# Altium integrated library Diodes - TVS.IntLib: 5379 symbols (part 54 of 122)
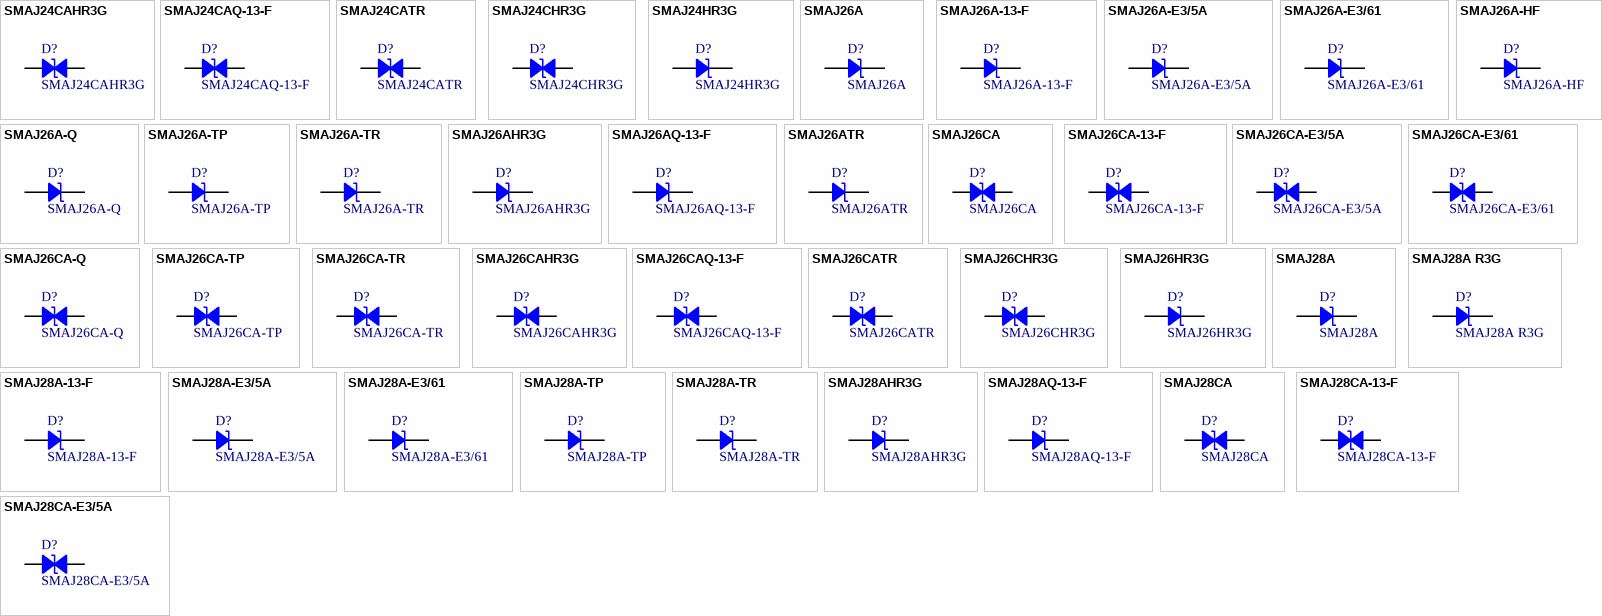
[diagram p187: symbols SMAJ24CAHR3G to SMAJ28CA-E3/5A]

## SMAJ26ATR
designator D?
TVS DIODE 26V 42.1V SMA; Manufacturer: SMC Diode Solutions; Current - Peak Pulse (10/1000µs): 9.5A; Power Line Protection: No; Power - Peak Pulse: 400W; Type: Zener; Unidirectional Channels: 1; Voltage - Breakdown (Min): 28.9V; Part Number: SMAJ26ATR; Applications: General Purpose; ComponentLink1Description: Datasheet; ComponentLink1URL: http://www.smc-diodes.com/propdf/SMAJ%20SERIES%20N0223%20REV.B.pdf; ComponentLink2Description: DigiKey Link; ComponentLink2URL: http://digikey.com/product-detail/en/smc-diode-solutions/SMAJ26ATR/1655-1612-1-ND/6023057; LastUpdated: 9/2/2020 1:20:14 AM; Lifecycle Status: Active; Minimum Order: 1; Mounting Type: Surface Mount; Operating Temperature: -55°C ~ 150°C (TJ); Package / Case: DO-214AC, SMA; Packaging: TapeAndReel; PartId: 5742; Part Status: Active; Price: 0.07; Series: SMAJ; Supplier 1: DigiKey; Supplier Part Number 1: 1655-1612-1-ND; Supplier Device Package: SMA (DO-214AC); Voltage - Clamping (Max) @ Ipp: 42.1V; Voltage - Reverse Standoff (Typ): 26V
footprint DO214AC SMA
pins: 1, 2

## SMAJ26CA
designator D?
TVS DIODE 26V 42.1V SMA; Manufacturer: AVX Corporation; Bidirectional Channels: 1; Current - Peak Pulse (10/1000µs): 9.5A; Power Line Protection: No; Power - Peak Pulse: 400W; Type: Zener; Voltage - Breakdown (Min): 28.9V; Part Number: SMAJ26CA; Applications: General Purpose; ComponentLink1Description: Datasheet; ComponentLink1URL: //media.digikey.com/pdf/Data%20Sheets/AVX%20PDFs/Transient%20Suppression%20Diodes.pdf; ComponentLink2Description: DigiKey Link; ComponentLink2URL: http://digikey.com/product-detail/en/avx-corporation/SMAJ26CA/478-7056-1-ND/3340378; LastUpdated: 9/2/2020 1:27:51 AM; Lifecycle Status: Active; Minimum Order: 1; Mounting Type: Surface Mount; Operating Temperature: -55°C ~ 150°C (TJ); Package / Case: DO-214AC, SMA; Packaging: CutTape; PartId: 7346; Part Status: Active; Price: 0.44; Series: -; Supplier 1: DigiKey; Supplier Part Number 1: 478-7056-1-ND; Supplier Device Package: SMAJ (DO-214AC); Voltage - Clamping (Max) @ Ipp: 42.1V; Voltage - Reverse Standoff (Typ): 26V
footprint DO214AC SMA
pins: 1, 2

## SMAJ26CA-13-F
designator D?
TVS DIODE 26V 42.1V SMA; Manufacturer: Diodes Incorporated; Bidirectional Channels: 1; Current - Peak Pulse (10/1000µs): 9.5A; Power Line Protection: No; Power - Peak Pulse: 400W; Type: Zener; Voltage - Breakdown (Min): 28.9V; Part Number: SMAJ26CA-13-F; Applications: General Purpose; ComponentLink1Description: Datasheet; ComponentLink1URL: https://www.diodes.com/assets/Datasheets/ds19005.pdf; ComponentLink2Description: DigiKey Link; ComponentLink2URL: http://digikey.com/product-detail/en/diodes-incorporated/SMAJ26CA-13-F/SMAJ26CA-FDICT-ND/755512; LastUpdated: 9/2/2020 1:27:53 AM; Lifecycle Status: Active; Minimum Order: 1; Mounting Type: Surface Mount; Operating Temperature: -55°C ~ 150°C (TJ); Package / Case: DO-214AC, SMA; Packaging: TapeAndReel; PartId: 7596; Part Status: Active; Price: 0.09; Series: -; Supplier 1: DigiKey; Supplier Part Number 1: SMAJ26CA-FDICT-ND; Supplier Device Package: SMA; Voltage - Clamping (Max) @ Ipp: 42.1V; Voltage - Reverse Standoff (Typ): 26V
footprint DO214AC SMA
pins: 1, 2

## SMAJ26CA-E3/5A
designator D?
TVS DIODE 26V 42.1V DO214AC; Manufacturer: Vishay Semiconductor Diodes Division; Bidirectional Channels: 1; Current - Peak Pulse (10/1000µs): 9.5A; Power Line Protection: No; Power - Peak Pulse: 400W; Type: Zener; Voltage - Breakdown (Min): 28.9V; Part Number: SMAJ26CA-E3/5A; Applications: General Purpose; ComponentLink1Description: Datasheet; ComponentLink1URL: http://www.vishay.com/docs/88390/smaj50a.pdf; ComponentLink2Description: DigiKey Link; ComponentLink2URL: http://digikey.com/product-detail/en/vishay-semiconductor-diodes-division/SMAJ26CA-E3-5A/SMAJ26CA-E3-5AGICT-ND/9600989; LastUpdated: 9/2/2020 1:27:55 AM; Lifecycle Status: Active; Minimum Order: 1; Mounting Type: Surface Mount; Operating Temperature: -55°C ~ 150°C (TJ); Package / Case: DO-214AC, SMA; Packaging: TapeAndReel; PartId: 7854; Part Status: Active; Price: 0.09; Series: TransZorb®; Supplier 1: DigiKey; Supplier Part Number 1: SMAJ26CA-E3/5AGICT-ND; Supplier Device Package: DO-214AC (SMA); Voltage - Clamping (Max) @ Ipp: 42.1V; Voltage - Reverse Standoff (Typ): 26V
footprint DO214AC SMA
pins: 1, 2

## SMAJ26CA-E3/61
designator D?
TVS DIODE 26V 42.1V DO214AC; Manufacturer: Vishay Semiconductor Diodes Division; Bidirectional Channels: 1; Current - Peak Pulse (10/1000µs): 9.5A; Power Line Protection: No; Power - Peak Pulse: 400W; Type: Zener; Voltage - Breakdown (Min): 28.9V; Part Number: SMAJ26CA-E3/61; Applications: General Purpose; ComponentLink1Description: Datasheet; ComponentLink1URL: http://www.vishay.com/docs/88390/smaj50a.pdf; ComponentLink2Description: DigiKey Link; ComponentLink2URL: http://digikey.com/product-detail/en/vishay-semiconductor-diodes-division/SMAJ26CA-E3-61/SMAJ26CA-E3-61GICT-ND/3306546; LastUpdated: 9/2/2020 1:27:52 AM; Lifecycle Status: Active; Minimum Order: 1; Mounting Type: Surface Mount; Operating Temperature: -55°C ~ 150°C (TJ); Package / Case: DO-214AC, SMA; Packaging: TapeAndReel; PartId: 7511; Part Status: Active; Price: 0.10; Series: TransZorb®; Supplier 1: DigiKey; Supplier Part Number 1: SMAJ26CA-E3/61GICT-ND; Supplier Device Package: DO-214AC (SMA); Voltage - Clamping (Max) @ Ipp: 42.1V; Voltage - Reverse Standoff (Typ): 26V
footprint DO214AC SMA
pins: 1, 2

## SMAJ26CA-Q
designator D?
TVS DIODE 26V 42.1V SMA; Manufacturer: Bourns Inc.; Bidirectional Channels: 1; Current - Peak Pulse (10/1000µs): 9.5A; Power Line Protection: No; Power - Peak Pulse: 400W; Type: Zener; Voltage - Breakdown (Min): 28.9V; Part Number: SMAJ26CA-Q; Applications: Automotive; ComponentLink1Description: Datasheet; ComponentLink1URL: https://www.bourns.com/docs/Product-Datasheets/SMAJ-Q.pdf; ComponentLink2Description: DigiKey Link; ComponentLink2URL: http://digikey.com/product-detail/en/bourns-inc/SMAJ26CA-Q/SMAJ26CA-QCT-ND/8275818; LastUpdated: 9/2/2020 1:27:52 AM; Lifecycle Status: Active; Minimum Order: 0; Mounting Type: Surface Mount; Operating Temperature: -55°C ~ 150°C (TJ); Package / Case: DO-214AC, SMA; Packaging: TapeAndReel; PartId: 7484; Part Status: Active; Price: 0.10; Series: Automotive, AEC-Q101, SMAJ; Supplier 1: DigiKey; Supplier Part Number 1: SMAJ26CA-QCT-ND; Supplier Device Package: SMA (DO-214AC); Voltage - Clamping (Max) @ Ipp: 42.1V; Voltage - Reverse Standoff (Typ): 26V
footprint DO214AC SMA
pins: 1, 2

## SMAJ26CA-TP
designator D?
TVS DIODE 26V 42.1V DO214AC; Manufacturer: Micro Commercial Co; Bidirectional Channels: 1; Current - Peak Pulse (10/1000µs): 9.5A; Power Line Protection: No; Power - Peak Pulse: 400W; Type: Zener; Voltage - Breakdown (Min): 28.9V; Part Number: SMAJ26CA-TP; Applications: General Purpose; ComponentLink1Description: Datasheet; ComponentLink1URL: https://www.mccsemi.com/pdf/Products/SMAJ5.0~SMAJ440CA(SMA).pdf; ComponentLink2Description: DigiKey Link; ComponentLink2URL: http://digikey.com/product-detail/en/micro-commercial-co/SMAJ26CA-TP/SMAJ26CA-TPMSCT-ND/1200589; LastUpdated: 9/2/2020 1:27:55 AM; Lifecycle Status: Active; Minimum Order: 1; Mounting Type: Surface Mount; Operating Temperature: -55°C ~ 175°C (TA); Package / Case: DO-214AC, SMA; Packaging: TapeAndReel; PartId: 7767; Part Status: Active; Price: 0.10; Series: -; Supplier 1: DigiKey; Supplier Part Number 1: SMAJ26CA-TPMSCT-ND; Supplier Device Package: DO-214AC (SMA); Voltage - Clamping (Max) @ Ipp: 42.1V; Voltage - Reverse Standoff (Typ): 26V
footprint DO214AC SMA
pins: 1, 2

## SMAJ26CA-TR
designator D?
TVS DIODE 26V 53.5V SMA; Manufacturer: STMicroelectronics; Bidirectional Channels: 1; Current - Peak Pulse (10/1000µs): 43A (8/20µs); Power Line Protection: No; Power - Peak Pulse: 400W; Type: Zener; Voltage - Breakdown (Min): 28.9V; Part Number: SMAJ26CA-TR; Applications: General Purpose; ComponentLink1Description: Datasheet; ComponentLink1URL: http://www.st.com/content/ccc/resource/technical/document/datasheet/ff/c0/80/cc/19/4c/45/af/CD00001333.pdf/files/CD00001333.pdf/_jcr_content/translations/en.CD00001333.pdf; ComponentLink2Description: DigiKey Link; ComponentLink2URL: http://digikey.com/product-detail/en/stmicroelectronics/SMAJ26CA-TR/497-12523-1-ND/2864678; LastUpdated: 9/2/2020 1:27:53 AM; Lifecycle Status: Active; Minimum Order: 1; Mounting Type: Surface Mount; Operating Temperature: -55°C ~ 150°C (TJ); Package / Case: DO-214AC, SMA; Packaging: TapeAndReel; PartId: 7534; Part Status: Active; Price: 0.10; Series: SMAJ, TRANSIL™; Supplier 1: DigiKey; Supplier Part Number 1: 497-12523-1-ND; Supplier Device Package: SMA (DO-214AC); Voltage - Clamping (Max) @ Ipp: 53.5V; Voltage - Reverse Standoff (Typ): 26V
footprint DO214AC SMA
pins: 1, 2

## SMAJ26CAHR3G
designator D?
TVS DIODE 26V 42.1V DO214AC; Manufacturer: Taiwan Semiconductor Corporation; Bidirectional Channels: 1; Current - Peak Pulse (10/1000µs): 9.5A; Power Line Protection: No; Power - Peak Pulse: 400W; Type: Zener; Voltage - Breakdown (Min): 28.9V; Part Number: SMAJ26CAHR3G; Applications: Automotive; ComponentLink1Description: Datasheet; ComponentLink1URL: https://www.taiwansemi.com/products/datasheet/SMAJ%20SERIES_S1901.pdf; ComponentLink2Description: DigiKey Link; ComponentLink2URL: http://digikey.com/product-detail/en/taiwan-semiconductor-corporation/SMAJ26CAHR3G/SMAJ26CAHR3GCT-ND/10287936; LastUpdated: 9/2/2020 1:27:54 AM; Lifecycle Status: Active; Minimum Order: 1; Mounting Type: Surface Mount; Operating Temperature: -55°C ~ 150°C (TJ); Package / Case: DO-214AC, SMA; Packaging: TapeAndReel; PartId: 7700; Part Status: Active; Price: 0.12; Series: Automotive, AEC-Q101, SMAJ; Supplier 1: DigiKey; Supplier Part Number 1: SMAJ26CAHR3GCT-ND; Supplier Device Package: DO-214AC (SMA); Voltage - Clamping (Max) @ Ipp: 42.1V; Voltage - Reverse Standoff (Typ): 26V
footprint DO214AC SMA
pins: 1, 2

## SMAJ26CAQ-13-F
designator D?
TRANSIENT VOLTAGE SUPPRESSOR,SMA; Manufacturer: Diodes Incorporated; Bidirectional Channels: 1; Current - Peak Pulse (10/1000µs): 9.5A; Power Line Protection: No; Power - Peak Pulse: 400W; Type: Zener; Voltage - Breakdown (Min): 28.9V; Voltage - Clamping (Max) @ Ipp: 42.1V; Voltage - Reverse Standoff (Typ): 26V; Part Number: SMAJ26CAQ-13-F; Applications: Automotive; ComponentLink1Description: Datasheet; ComponentLink1URL: https://www.diodes.com/assets/Datasheets/ds40739.pdf; ComponentLink2Description: DigiKey Link; ComponentLink2URL: http://digikey.com/product-detail/en/diodes-incorporated/SMAJ26CAQ-13-F/SMAJ26CAQ-13-FDICT-ND/9738974; LastUpdated: 9/2/2020 1:27:53 AM; Lifecycle Status: Active; Minimum Order: 1; Mounting Type: Surface Mount; Operating Temperature: -55°C ~ 150°C (TJ); Package / Case: DO-214AC, SMA; Packaging: TapeAndReel; PartId: 7556; Part Status: Active; Price: 0.10; Series: Automotive, AEC-Q101; Supplier 1: DigiKey; Supplier Part Number 1: SMAJ26CAQ-13-FDICT-ND; Supplier Device Package: SMA
footprint DO214AC SMA
pins: 1, 2

## SMAJ26CATR
designator D?
TVS DIODE 26V 42.1V SMA; Manufacturer: SMC Diode Solutions; Bidirectional Channels: 1; Current - Peak Pulse (10/1000µs): 9.5A; Power Line Protection: No; Power - Peak Pulse: 400W; Type: Zener; Voltage - Breakdown (Min): 28.9V; Part Number: SMAJ26CATR; Applications: General Purpose; ComponentLink1Description: Datasheet; ComponentLink1URL: http://www.smc-diodes.com/propdf/SMAJ%20SERIES%20N0223%20REV.B.pdf; ComponentLink2Description: DigiKey Link; ComponentLink2URL: http://digikey.com/product-detail/en/smc-diode-solutions/SMAJ26CATR/1655-1613-1-ND/6023058; LastUpdated: 9/2/2020 1:27:51 AM; Lifecycle Status: Active; Minimum Order: 1; Mounting Type: Surface Mount; Operating Temperature: -55°C ~ 150°C (TJ); Package / Case: DO-214AC, SMA; Packaging: TapeAndReel; PartId: 7352; Part Status: Active; Price: 0.07; Series: SMAJ; Supplier 1: DigiKey; Supplier Part Number 1: 1655-1613-1-ND; Supplier Device Package: SMA (DO-214AC); Voltage - Clamping (Max) @ Ipp: 42.1V; Voltage - Reverse Standoff (Typ): 26V
footprint DO214AC SMA
pins: 1, 2

## SMAJ26CHR3G
designator D?
400W 32.1V 10% BIDIRECTIONAL TVS; Manufacturer: Taiwan Semiconductor Corporation; Bidirectional Channels: 1; Current - Peak Pulse (10/1000µs): 8.6A; Power Line Protection: No; Type: Zener; Voltage - Breakdown (Min): 28.9V; Voltage - Clamping (Max) @ Ipp: 46.6V; Voltage - Reverse Standoff (Typ): 26V; Part Number: SMAJ26CHR3G; Applications: Automotive; ComponentLink1Description: Datasheet; ComponentLink1URL: https://www.taiwansemi.com/products/datasheet/SMAJ%20SERIES_S1901.pdf; ComponentLink2Description: DigiKey Link; ComponentLink2URL: http://digikey.com/product-detail/en/taiwan-semiconductor-corporation/SMAJ26CHR3G/SMAJ26CHR3GCT-ND/10287853; LastUpdated: 9/2/2020 1:27:54 AM; Lifecycle Status: Active; Minimum Order: 1; Mounting Type: Surface Mount; Operating Temperature: -55°C ~ 150°C (TJ); Package / Case: DO-214AC, SMA; Packaging: TapeAndReel; PartId: 7737; Part Status: Active; Power - Peak Pulse: 400W; Price: 0.11; Series: Automotive, AEC-Q101, SMAJ; Supplier 1: DigiKey; Supplier Part Number 1: SMAJ26CHR3GCT-ND; Supplier Device Package: DO-214AC (SMA)
footprint DO214AC SMA
pins: 1, 2

## SMAJ26HR3G
designator D?
400W 32.1V 10% UNIDIRECTIONAL TV; Manufacturer: Taiwan Semiconductor Corporation; Current - Peak Pulse (10/1000µs): 8.6A; Power Line Protection: No; Type: Zener; Unidirectional Channels: 1; Voltage - Breakdown (Min): 28.9V; Voltage - Clamping (Max) @ Ipp: 46.6V; Voltage - Reverse Standoff (Typ): 26V; Part Number: SMAJ26HR3G; Applications: Automotive; ComponentLink1Description: Datasheet; ComponentLink1URL: https://www.taiwansemi.com/products/datasheet/SMAJ%20SERIES_S1901.pdf; ComponentLink2Description: DigiKey Link; ComponentLink2URL: http://digikey.com/product-detail/en/taiwan-semiconductor-corporation/SMAJ26HR3G/SMAJ26HR3GCT-ND/10287854; LastUpdated: 9/2/2020 1:20:17 AM; Lifecycle Status: Active; Minimum Order: 1; Mounting Type: Surface Mount; Operating Temperature: -55°C ~ 150°C (TJ); Package / Case: DO-214AC, SMA; Packaging: TapeAndReel; PartId: 6010; Part Status: Active; Power - Peak Pulse: 400W; Price: 0.12; Series: Automotive, AEC-Q101, SMAJ; Supplier 1: DigiKey; Supplier Part Number 1: SMAJ26HR3GCT-ND; Supplier Device Package: DO-214AC (SMA)
footprint DO214AC SMA
pins: 1, 2

## SMAJ28A
designator D?
TVS DIODE 28V 45.4V DO214AC; Manufacturer: Littelfuse Inc.; Current - Peak Pulse (10/1000µs): 8.8A; Power Line Protection: No; Power - Peak Pulse: 400W; Type: Zener; Unidirectional Channels: 1; Voltage - Breakdown (Min): 31.1V; Part Number: SMAJ28A; Applications: General Purpose; ComponentLink1Description: Datasheet; ComponentLink1URL: https://www.littelfuse.com/~/media/electronics/datasheets/tvs_diodes/littelfuse_tvs_diode_smaj_datasheet.pdf.pdf; ComponentLink2Description: DigiKey Link; ComponentLink2URL: http://digikey.com/product-detail/en/littelfuse-inc/SMAJ28A/SMAJ28ALFCT-ND/762504; LastUpdated: 9/2/2020 1:20:14 AM; Lifecycle Status: Active; Minimum Order: 1; Mounting Type: Surface Mount; Operating Temperature: -65°C ~ 150°C (TJ); Package / Case: DO-214AC, SMA; Packaging: TapeAndReel; PartId: 5720; Part Status: Active; Price: 0.07; Series: SMAJ; Supplier 1: DigiKey; Supplier Part Number 1: SMAJ28ALFCT-ND; Supplier Device Package: DO-214AC (SMA); Voltage - Clamping (Max) @ Ipp: 45.4V; Voltage - Reverse Standoff (Typ): 28V
footprint DO214AC SMA
pins: 1, 2

## SMAJ28A R3G
designator D?
TVS DIODE 28V 45.4V DO214AC; Manufacturer: Taiwan Semiconductor Corporation; Current - Peak Pulse (10/1000µs): 8.8A; Power Line Protection: No; Power - Peak Pulse: 400W; Type: Zener; Unidirectional Channels: 1; Voltage - Breakdown (Min): 31.1V; Part Number: SMAJ28A R3G; Applications: General Purpose; ComponentLink1Description: Datasheet; ComponentLink1URL: https://www.taiwansemi.com/products/datasheet/SMAJ%20SERIES_S1901.pdf; ComponentLink2Description: DigiKey Link; ComponentLink2URL: http://digikey.com/product-detail/en/taiwan-semiconductor-corporation/SMAJ28A-R3G/SMAJ28AR3GCT-ND/7358811; LastUpdated: 9/2/2020 1:20:16 AM; Lifecycle Status: Active; Minimum Order: 0; Mounting Type: Surface Mount; Operating Temperature: -55°C ~ 150°C (TJ); Package / Case: DO-214AC, SMA; Packaging: TapeAndReel; PartId: 5924; Part Status: Active; Price: 0.12; Series: SMAJ; Supplier 1: DigiKey; Supplier Part Number 1: SMAJ28AR3GCT-ND; Supplier Device Package: DO-214AC (SMA); Voltage - Clamping (Max) @ Ipp: 45.4V; Voltage - Reverse Standoff (Typ): 28V
footprint DO214AC SMA
pins: 1, 2

## SMAJ28A-13-F
designator D?
TVS DIODE 28V 45.4V SMA; Manufacturer: Diodes Incorporated; Current - Peak Pulse (10/1000µs): 8.8A; Power Line Protection: No; Power - Peak Pulse: 400W; Type: Zener; Unidirectional Channels: 1; Voltage - Breakdown (Min): 31.1V; Part Number: SMAJ28A-13-F; Applications: General Purpose; ComponentLink1Description: Datasheet; ComponentLink1URL: https://www.diodes.com/assets/Datasheets/ds19005.pdf; ComponentLink2Description: DigiKey Link; ComponentLink2URL: http://digikey.com/product-detail/en/diodes-incorporated/SMAJ28A-13-F/SMAJ28A-FDICT-ND/775789; LastUpdated: 9/2/2020 1:20:16 AM; Lifecycle Status: Active; Minimum Order: 1; Mounting Type: Surface Mount; Operating Temperature: -55°C ~ 150°C (TJ); Package / Case: DO-214AC, SMA; Packaging: TapeAndReel; PartId: 5964; Part Status: Active; Price: 0.08; Series: -; Supplier 1: DigiKey; Supplier Part Number 1: SMAJ28A-FDICT-ND; Supplier Device Package: SMA; Voltage - Clamping (Max) @ Ipp: 45.4V; Voltage - Reverse Standoff (Typ): 28V
footprint DO214AC SMA
pins: 1, 2

## SMAJ28A-E3/5A
designator D?
TVS DIODE 28V 45.4V DO214AC; Manufacturer: Vishay Semiconductor Diodes Division; Current - Peak Pulse (10/1000µs): 8.8A; Power Line Protection: No; Power - Peak Pulse: 400W; Type: Zener; Unidirectional Channels: 1; Voltage - Breakdown (Min): 31.1V; Part Number: SMAJ28A-E3/5A; Applications: General Purpose; ComponentLink1Description: Datasheet; ComponentLink1URL: http://www.vishay.com/docs/88390/smaj50a.pdf; ComponentLink2Description: DigiKey Link; ComponentLink2URL: http://digikey.com/product-detail/en/vishay-semiconductor-diodes-division/SMAJ28A-E3-5A/SMAJ28A-E3-5AGICT-ND/3711954; LastUpdated: 9/2/2020 1:20:18 AM; Lifecycle Status: Active; Minimum Order: 1; Mounting Type: Surface Mount; Operating Temperature: -55°C ~ 150°C (TJ); Package / Case: DO-214AC, SMA; Packaging: TapeAndReel; PartId: 6182; Part Status: Active; Price: 0.09; Series: TransZorb®; Supplier 1: DigiKey; Supplier Part Number 1: SMAJ28A-E3/5AGICT-ND; Supplier Device Package: DO-214AC (SMA); Voltage - Clamping (Max) @ Ipp: 45.4V; Voltage - Reverse Standoff (Typ): 28V
footprint DO214AC SMA
pins: 1, 2

## SMAJ28A-E3/61
designator D?
TVS DIODE 28V 45.4V DO214AC; Manufacturer: Vishay Semiconductor Diodes Division; Current - Peak Pulse (10/1000µs): 8.8A; Power Line Protection: No; Power - Peak Pulse: 400W; Type: Zener; Unidirectional Channels: 1; Voltage - Breakdown (Min): 31.1V; Part Number: SMAJ28A-E3/61; Applications: General Purpose; ComponentLink1Description: Datasheet; ComponentLink1URL: http://www.vishay.com/docs/88390/smaj50a.pdf; ComponentLink2Description: DigiKey Link; ComponentLink2URL: http://digikey.com/product-detail/en/vishay-semiconductor-diodes-division/SMAJ28A-E3-61/SMAJ28A-E3-61GICT-ND/2413429; LastUpdated: 9/2/2020 1:20:15 AM; Lifecycle Status: Active; Minimum Order: 1; Mounting Type: Surface Mount; Operating Temperature: -55°C ~ 150°C (TJ); Package / Case: DO-214AC, SMA; Packaging: TapeAndReel; PartId: 5873; Part Status: Active; Price: 0.10; Series: TransZorb®; Supplier 1: DigiKey; Supplier Part Number 1: SMAJ28A-E3/61GICT-ND; Supplier Device Package: DO-214AC (SMA); Voltage - Clamping (Max) @ Ipp: 45.4V; Voltage - Reverse Standoff (Typ): 28V
footprint DO214AC SMA
pins: 1, 2

## SMAJ28A-TP
designator D?
TVS DIODE 28V 45.4V DO214AC; Manufacturer: Micro Commercial Co; Current - Peak Pulse (10/1000µs): 8.8A; Power Line Protection: No; Power - Peak Pulse: 400W; Type: Zener; Unidirectional Channels: 1; Voltage - Breakdown (Min): 31.1V; Part Number: SMAJ28A-TP; Applications: General Purpose; ComponentLink1Description: Datasheet; ComponentLink1URL: https://www.mccsemi.com/pdf/Products/SMAJ5.0~SMAJ440CA(SMA).pdf; ComponentLink2Description: DigiKey Link; ComponentLink2URL: http://digikey.com/product-detail/en/micro-commercial-co/SMAJ28A-TP/SMAJ28A-TPMSCT-ND/1200590; LastUpdated: 9/2/2020 1:20:14 AM; Lifecycle Status: Active; Minimum Order: 1; Mounting Type: Surface Mount; Operating Temperature: -55°C ~ 175°C (TA); Package / Case: DO-214AC, SMA; Packaging: TapeAndReel; PartId: 5659; Part Status: Active; Price: 0.10; Series: -; Supplier 1: DigiKey; Supplier Part Number 1: SMAJ28A-TPMSCT-ND; Supplier Device Package: DO-214AC (SMA); Voltage - Clamping (Max) @ Ipp: 45.4V; Voltage - Reverse Standoff (Typ): 28V
footprint DO214AC SMA
pins: 1, 2

## SMAJ28A-TR
designator D?
TVS DIODE 28V 59V SMA; Manufacturer: STMicroelectronics; Current - Peak Pulse (10/1000µs): 39A (8/20µs); Power Line Protection: No; Power - Peak Pulse: 400W; Type: Zener; Unidirectional Channels: 1; Voltage - Breakdown (Min): 31.1V; Part Number: SMAJ28A-TR; Applications: General Purpose; ComponentLink1Description: Datasheet; ComponentLink1URL: http://www.st.com/content/ccc/resource/technical/document/datasheet/ff/c0/80/cc/19/4c/45/af/CD00001333.pdf/files/CD00001333.pdf/_jcr_content/translations/en.CD00001333.pdf; ComponentLink2Description: DigiKey Link; ComponentLink2URL: http://digikey.com/product-detail/en/stmicroelectronics/SMAJ28A-TR/497-12524-1-ND/2864679; LastUpdated: 9/2/2020 1:20:17 AM; Lifecycle Status: Active; Minimum Order: 1; Mounting Type: Surface Mount; Operating Temperature: -55°C ~ 150°C (TJ); Package / Case: DO-214AC, SMA; Packaging: TapeAndReel; PartId: 6108; Part Status: Active; Price: 0.10; Series: SMAJ, TRANSIL™; Supplier 1: DigiKey; Supplier Part Number 1: 497-12524-1-ND; Supplier Device Package: SMA (DO-214AC); Voltage - Clamping (Max) @ Ipp: 59V; Voltage - Reverse Standoff (Typ): 28V
footprint DO214AC SMA
pins: 1, 2

## SMAJ28AHR3G
designator D?
TVS DIODE 28V 45.4V DO214AC; Manufacturer: Taiwan Semiconductor Corporation; Current - Peak Pulse (10/1000µs): 8.8A; Power Line Protection: No; Power - Peak Pulse: 400W; Type: Zener; Unidirectional Channels: 1; Voltage - Breakdown (Min): 31.1V; Part Number: SMAJ28AHR3G; Applications: Automotive; ComponentLink1Description: Datasheet; ComponentLink1URL: https://www.taiwansemi.com/products/datasheet/SMAJ%20SERIES_S1901.pdf; ComponentLink2Description: DigiKey Link; ComponentLink2URL: http://digikey.com/product-detail/en/taiwan-semiconductor-corporation/SMAJ28AHR3G/SMAJ28AHR3GCT-ND/10287937; LastUpdated: 9/2/2020 1:20:17 AM; Lifecycle Status: Active; Minimum Order: 1; Mounting Type: Surface Mount; Operating Temperature: -55°C ~ 150°C (TJ); Package / Case: DO-214AC, SMA; Packaging: TapeAndReel; PartId: 6060; Part Status: Active; Price: 0.11; Series: Automotive, AEC-Q101, SMAJ; Supplier 1: DigiKey; Supplier Part Number 1: SMAJ28AHR3GCT-ND; Supplier Device Package: DO-214AC (SMA); Voltage - Clamping (Max) @ Ipp: 45.4V; Voltage - Reverse Standoff (Typ): 28V
footprint DO214AC SMA
pins: 1, 2

## SMAJ28AQ-13-F
designator D?
TRANSIENT VOLTAGE SUPPRESSOR,SMA; Manufacturer: Diodes Incorporated; Current - Peak Pulse (10/1000µs): 8.8A; Power Line Protection: No; Power - Peak Pulse: 400W; Type: Zener; Unidirectional Channels: 1; Voltage - Breakdown (Min): 31.1V; Voltage - Clamping (Max) @ Ipp: 45.4V; Voltage - Reverse Standoff (Typ): 28V; Part Number: SMAJ28AQ-13-F; Applications: Automotive; ComponentLink1Description: Datasheet; ComponentLink1URL: https://www.diodes.com/assets/Datasheets/ds40739.pdf; ComponentLink2Description: DigiKey Link; ComponentLink2URL: http://digikey.com/product-detail/en/diodes-incorporated/SMAJ28AQ-13-F/SMAJ28AQ-13-FDICT-ND/9738964; LastUpdated: 9/2/2020 1:20:13 AM; Lifecycle Status: Active; Minimum Order: 1; Mounting Type: Surface Mount; Operating Temperature: -55°C ~ 150°C (TJ); Package / Case: DO-214AC, SMA; Packaging: TapeAndReel; PartId: 5639; Part Status: Active; Price: 0.09; Series: Automotive, AEC-Q101; Supplier 1: DigiKey; Supplier Part Number 1: SMAJ28AQ-13-FDICT-ND; Supplier Device Package: SMA
footprint DO214AC SMA
pins: 1, 2

## SMAJ28CA
designator D?
TVS DIODE 28V 45.4V DO214AC; Manufacturer: Littelfuse Inc.; Bidirectional Channels: 1; Current - Peak Pulse (10/1000µs): 8.8A; Power Line Protection: No; Power - Peak Pulse: 400W; Type: Zener; Voltage - Breakdown (Min): 31.1V; Part Number: SMAJ28CA; Applications: General Purpose; ComponentLink1Description: Datasheet; ComponentLink1URL: https://www.littelfuse.com/~/media/electronics/datasheets/tvs_diodes/littelfuse_tvs_diode_smaj_datasheet.pdf.pdf; ComponentLink2Description: DigiKey Link; ComponentLink2URL: http://digikey.com/product-detail/en/littelfuse-inc/SMAJ28CA/SMAJ28CALFCT-ND/762505; LastUpdated: 9/2/2020 1:27:51 AM; Lifecycle Status: Active; Minimum Order: 1; Mounting Type: Surface Mount; Operating Temperature: -65°C ~ 150°C (TJ); Package / Case: DO-214AC, SMA; Packaging: TapeAndReel; PartId: 7380; Part Status: Active; Price: 0.09; Series: SMAJ; Supplier 1: DigiKey; Supplier Part Number 1: SMAJ28CALFCT-ND; Supplier Device Package: DO-214AC (SMA); Voltage - Clamping (Max) @ Ipp: 45.4V; Voltage - Reverse Standoff (Typ): 28V
footprint DO214AC SMA
pins: 1, 2

## SMAJ28CA-13-F
designator D?
TVS DIODE 28V 45.4V SMA; Manufacturer: Diodes Incorporated; Bidirectional Channels: 1; Current - Peak Pulse (10/1000µs): 8.8A; Power Line Protection: No; Power - Peak Pulse: 400W; Type: Zener; Voltage - Breakdown (Min): 31.1V; Part Number: SMAJ28CA-13-F; Applications: General Purpose; ComponentLink1Description: Datasheet; ComponentLink1URL: https://www.diodes.com/assets/Datasheets/ds19005.pdf; ComponentLink2Description: DigiKey Link; ComponentLink2URL: http://digikey.com/product-detail/en/diodes-incorporated/SMAJ28CA-13-F/SMAJ28CA-FDICT-ND/765463; LastUpdated: 9/2/2020 1:27:51 AM; Lifecycle Status: Active; Minimum Order: 1; Mounting Type: Surface Mount; Operating Temperature: -55°C ~ 150°C (TJ); Package / Case: DO-214AC, SMA; Packaging: TapeAndReel; PartId: 7381; Part Status: Active; Price: 0.08; Series: -; Supplier 1: DigiKey; Supplier Part Number 1: SMAJ28CA-FDICT-ND; Supplier Device Package: SMA; Voltage - Clamping (Max) @ Ipp: 45.4V; Voltage - Reverse Standoff (Typ): 28V
footprint DO214AC SMA
pins: 1, 2

## SMAJ28CA-E3/5A
designator D?
TVS DIODE 28V 45.4V DO214AC; Manufacturer: Vishay Semiconductor Diodes Division; Bidirectional Channels: 1; Current - Peak Pulse (10/1000µs): 8.8A; Power Line Protection: No; Power - Peak Pulse: 400W; Type: Zener; Voltage - Breakdown (Min): 31.1V; Part Number: SMAJ28CA-E3/5A; Applications: General Purpose; ComponentLink1Description: Datasheet; ComponentLink1URL: http://www.vishay.com/docs/88390/smaj50a.pdf; ComponentLink2Description: DigiKey Link; ComponentLink2URL: http://digikey.com/product-detail/en/vishay-semiconductor-diodes-division/SMAJ28CA-E3-5A/SMAJ28CA-E3-5AGICT-ND/9600992; LastUpdated: 9/2/2020 1:27:55 AM; Lifecycle Status: Active; Minimum Order: 1; Mounting Type: Surface Mount; Operating Temperature: -55°C ~ 150°C (TJ); Package / Case: DO-214AC, SMA; Packaging: TapeAndReel; PartId: 7848; Part Status: Active; Price: 0.09; Series: TransZorb®; Supplier 1: DigiKey; Supplier Part Number 1: SMAJ28CA-E3/5AGICT-ND; Supplier Device Package: DO-214AC (SMA); Voltage - Clamping (Max) @ Ipp: 45.4V; Voltage - Reverse Standoff (Typ): 28V
footprint DO214AC SMA
pins: 1, 2

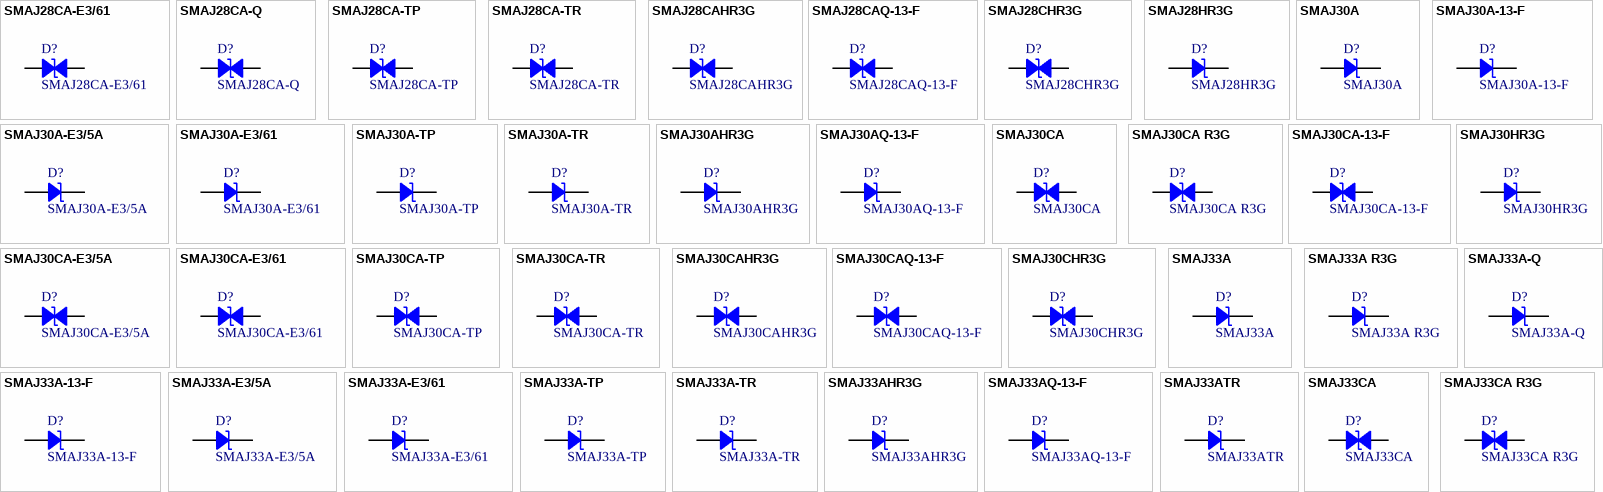
[diagram p59: symbols SMAJ28CA-E3/61 to SMAJ33CA R3G]

## SMAJ28CA-E3/61
designator D?
TVS DIODE 28V 45.4V DO214AC; Manufacturer: Vishay Semiconductor Diodes Division; Bidirectional Channels: 1; Current - Peak Pulse (10/1000µs): 8.8A; Power Line Protection: No; Power - Peak Pulse: 400W; Type: Zener; Voltage - Breakdown (Min): 31.1V; Part Number: SMAJ28CA-E3/61; Applications: General Purpose; ComponentLink1Description: Datasheet; ComponentLink1URL: http://www.vishay.com/docs/88390/smaj50a.pdf; ComponentLink2Description: DigiKey Link; ComponentLink2URL: http://digikey.com/product-detail/en/vishay-semiconductor-diodes-division/SMAJ28CA-E3-61/SMAJ28CA-E3-61GICT-ND/2413417; LastUpdated: 9/2/2020 1:27:55 AM; Lifecycle Status: Active; Minimum Order: 1; Mounting Type: Surface Mount; Operating Temperature: -55°C ~ 150°C (TJ); Package / Case: DO-214AC, SMA; Packaging: TapeAndReel; PartId: 7825; Part Status: Active; Price: 0.10; Series: TransZorb®; Supplier 1: DigiKey; Supplier Part Number 1: SMAJ28CA-E3/61GICT-ND; Supplier Device Package: DO-214AC (SMA); Voltage - Clamping (Max) @ Ipp: 45.4V; Voltage - Reverse Standoff (Typ): 28V
footprint DO214AC SMA
pins: 1, 2

## SMAJ28CA-Q
designator D?
TVS DIODE 28V 45.4V SMA; Manufacturer: Bourns Inc.; Bidirectional Channels: 1; Current - Peak Pulse (10/1000µs): 8.8A; Power Line Protection: No; Power - Peak Pulse: 400W; Type: Zener; Voltage - Breakdown (Min): 31.1V; Part Number: SMAJ28CA-Q; Applications: Automotive; ComponentLink1Description: Datasheet; ComponentLink1URL: https://www.bourns.com/docs/Product-Datasheets/SMAJ-Q.pdf; ComponentLink2Description: DigiKey Link; ComponentLink2URL: http://digikey.com/product-detail/en/bourns-inc/SMAJ28CA-Q/SMAJ28CA-QCT-ND/10222692; LastUpdated: 9/2/2020 1:27:53 AM; Lifecycle Status: Active; Minimum Order: 1; Mounting Type: Surface Mount; Operating Temperature: -55°C ~ 150°C (TJ); Package / Case: DO-214AC, SMA; Packaging: TapeAndReel; PartId: 7618; Part Status: Active; Price: 0.11; Series: Automotive, AEC-Q101, SMAJ; Supplier 1: DigiKey; Supplier Part Number 1: SMAJ28CA-QCT-ND; Supplier Device Package: SMA (DO-214AC); Voltage - Clamping (Max) @ Ipp: 45.4V; Voltage - Reverse Standoff (Typ): 28V
footprint DO214AC SMA
pins: 1, 2

## SMAJ28CA-TP
designator D?
TVS DIODE 28V 45.4V DO214AC; Manufacturer: Micro Commercial Co; Bidirectional Channels: 1; Current - Peak Pulse (10/1000µs): 8.8A; Power Line Protection: No; Power - Peak Pulse: 400W; Type: Zener; Voltage - Breakdown (Min): 31.1V; Part Number: SMAJ28CA-TP; Applications: General Purpose; ComponentLink1Description: Datasheet; ComponentLink1URL: https://www.mccsemi.com/pdf/Products/SMAJ5.0~SMAJ440CA(SMA).pdf; ComponentLink2Description: DigiKey Link; ComponentLink2URL: http://digikey.com/product-detail/en/micro-commercial-co/SMAJ28CA-TP/SMAJ28CA-TPMSCT-ND/1200591; LastUpdated: 9/2/2020 1:27:55 AM; Lifecycle Status: Active; Minimum Order: 1; Mounting Type: Surface Mount; Operating Temperature: -55°C ~ 175°C (TA); Package / Case: DO-214AC, SMA; Packaging: TapeAndReel; PartId: 7826; Part Status: Active; Price: 0.10; Series: -; Supplier 1: DigiKey; Supplier Part Number 1: SMAJ28CA-TPMSCT-ND; Supplier Device Package: DO-214AC (SMA); Voltage - Clamping (Max) @ Ipp: 45.4V; Voltage - Reverse Standoff (Typ): 28V
footprint DO214AC SMA
pins: 1, 2

## SMAJ28CA-TR
designator D?
TVS DIODE 28V 59V SMA; Manufacturer: STMicroelectronics; Bidirectional Channels: 1; Current - Peak Pulse (10/1000µs): 39A (8/20µs); Power Line Protection: No; Power - Peak Pulse: 400W; Type: Zener; Voltage - Breakdown (Min): 31.1V; Part Number: SMAJ28CA-TR; Applications: General Purpose; ComponentLink1Description: Datasheet; ComponentLink1URL: http://www.st.com/content/ccc/resource/technical/document/datasheet/ff/c0/80/cc/19/4c/45/af/CD00001333.pdf/files/CD00001333.pdf/_jcr_content/translations/en.CD00001333.pdf; ComponentLink2Description: DigiKey Link; ComponentLink2URL: http://digikey.com/product-detail/en/stmicroelectronics/SMAJ28CA-TR/497-4620-1-ND/806481; LastUpdated: 9/2/2020 1:27:50 AM; Lifecycle Status: Active; Minimum Order: 1; Mounting Type: Surface Mount; Operating Temperature: -55°C ~ 150°C (TJ); Package / Case: DO-214AC, SMA; Packaging: TapeAndReel; PartId: 7318; Part Status: Active; Price: 0.10; Series: SMAJ, TRANSIL™; Supplier 1: DigiKey; Supplier Part Number 1: 497-4620-1-ND; Supplier Device Package: SMA (DO-214AC); Voltage - Clamping (Max) @ Ipp: 59V; Voltage - Reverse Standoff (Typ): 28V
footprint DO214AC SMA
pins: 1, 2

## SMAJ28CAHR3G
designator D?
TVS DIODE 28V 45.4V DO214AC; Manufacturer: Taiwan Semiconductor Corporation; Bidirectional Channels: 1; Current - Peak Pulse (10/1000µs): 8.8A; Power Line Protection: No; Power - Peak Pulse: 400W; Type: Zener; Voltage - Breakdown (Min): 31.1V; Part Number: SMAJ28CAHR3G; Applications: Automotive; ComponentLink1Description: Datasheet; ComponentLink1URL: https://www.taiwansemi.com/products/datasheet/SMAJ%20SERIES_S1901.pdf; ComponentLink2Description: DigiKey Link; ComponentLink2URL: http://digikey.com/product-detail/en/taiwan-semiconductor-corporation/SMAJ28CAHR3G/SMAJ28CAHR3GCT-ND/10287938; LastUpdated: 9/2/2020 1:27:54 AM; Lifecycle Status: Active; Minimum Order: 1; Mounting Type: Surface Mount; Operating Temperature: -55°C ~ 150°C (TJ); Package / Case: DO-214AC, SMA; Packaging: TapeAndReel; PartId: 7699; Part Status: Active; Price: 0.12; Series: Automotive, AEC-Q101, SMAJ; Supplier 1: DigiKey; Supplier Part Number 1: SMAJ28CAHR3GCT-ND; Supplier Device Package: DO-214AC (SMA); Voltage - Clamping (Max) @ Ipp: 45.4V; Voltage - Reverse Standoff (Typ): 28V
footprint DO214AC SMA
pins: 1, 2

## SMAJ28CAQ-13-F
designator D?
TRANSIENT VOLTAGE SUPPRESSOR,SMA; Manufacturer: Diodes Incorporated; Bidirectional Channels: 1; Current - Peak Pulse (10/1000µs): 8.8A; Power Line Protection: No; Power - Peak Pulse: 400W; Type: Zener; Voltage - Breakdown (Min): 31.1V; Voltage - Clamping (Max) @ Ipp: 45.4V; Voltage - Reverse Standoff (Typ): 28V; Part Number: SMAJ28CAQ-13-F; Applications: Automotive; ComponentLink1Description: Datasheet; ComponentLink1URL: https://www.diodes.com/assets/Datasheets/ds40739.pdf; ComponentLink2Description: DigiKey Link; ComponentLink2URL: http://digikey.com/product-detail/en/diodes-incorporated/SMAJ28CAQ-13-F/SMAJ28CAQ-13-FDICT-ND/9738975; LastUpdated: 9/2/2020 1:27:53 AM; Lifecycle Status: Active; Minimum Order: 1; Mounting Type: Surface Mount; Operating Temperature: -55°C ~ 150°C (TJ); Package / Case: DO-214AC, SMA; Packaging: TapeAndReel; PartId: 7619; Part Status: Active; Price: 0.10; Series: Automotive, AEC-Q101; Supplier 1: DigiKey; Supplier Part Number 1: SMAJ28CAQ-13-FDICT-ND; Supplier Device Package: SMA
footprint DO214AC SMA
pins: 1, 2

## SMAJ28CHR3G
designator D?
400W 34.6V 10% BIDIRECTIONAL TVS; Manufacturer: Taiwan Semiconductor Corporation; Bidirectional Channels: 1; Current - Peak Pulse (10/1000µs): 8A; Power Line Protection: No; Type: Zener; Voltage - Breakdown (Min): 31.1V; Voltage - Clamping (Max) @ Ipp: 50V; Voltage - Reverse Standoff (Typ): 28V; Part Number: SMAJ28CHR3G; Applications: Automotive; ComponentLink1Description: Datasheet; ComponentLink1URL: https://www.taiwansemi.com/products/datasheet/SMAJ%20SERIES_S1901.pdf; ComponentLink2Description: DigiKey Link; ComponentLink2URL: http://digikey.com/product-detail/en/taiwan-semiconductor-corporation/SMAJ28CHR3G/SMAJ28CHR3GCT-ND/10287855; LastUpdated: 9/2/2020 1:27:54 AM; Lifecycle Status: Active; Minimum Order: 1; Mounting Type: Surface Mount; Operating Temperature: -55°C ~ 150°C (TJ); Package / Case: DO-214AC, SMA; Packaging: TapeAndReel; PartId: 7719; Part Status: Active; Power - Peak Pulse: 400W; Price: 0.11; Series: Automotive, AEC-Q101, SMAJ; Supplier 1: DigiKey; Supplier Part Number 1: SMAJ28CHR3GCT-ND; Supplier Device Package: DO-214AC (SMA)
footprint DO214AC SMA
pins: 1, 2

## SMAJ28HR3G
designator D?
400W 34.6V 10% UNIDIRECTIONAL TV; Manufacturer: Taiwan Semiconductor Corporation; Current - Peak Pulse (10/1000µs): 8A; Power Line Protection: No; Type: Zener; Unidirectional Channels: 1; Voltage - Breakdown (Min): 31.1V; Voltage - Clamping (Max) @ Ipp: 50V; Voltage - Reverse Standoff (Typ): 28V; Part Number: SMAJ28HR3G; Applications: Automotive; ComponentLink1Description: Datasheet; ComponentLink1URL: https://www.taiwansemi.com/products/datasheet/SMAJ%20SERIES_S1901.pdf; ComponentLink2Description: DigiKey Link; ComponentLink2URL: http://digikey.com/product-detail/en/taiwan-semiconductor-corporation/SMAJ28HR3G/SMAJ28HR3GCT-ND/10287856; LastUpdated: 9/2/2020 1:20:17 AM; Lifecycle Status: Active; Minimum Order: 1; Mounting Type: Surface Mount; Operating Temperature: -55°C ~ 150°C (TJ); Package / Case: DO-214AC, SMA; Packaging: TapeAndReel; PartId: 6009; Part Status: Active; Power - Peak Pulse: 400W; Price: 0.12; Series: Automotive, AEC-Q101, SMAJ; Supplier 1: DigiKey; Supplier Part Number 1: SMAJ28HR3GCT-ND; Supplier Device Package: DO-214AC (SMA)
footprint DO214AC SMA
pins: 1, 2

## SMAJ30A
designator D?
TVS DIODE 30V 48.4V DO214AC; Manufacturer: Littelfuse Inc.; Current - Peak Pulse (10/1000µs): 8.3A; Power Line Protection: No; Power - Peak Pulse: 400W; Type: Zener; Unidirectional Channels: 1; Voltage - Breakdown (Min): 33.3V; Part Number: SMAJ30A; Applications: General Purpose; ComponentLink1Description: Datasheet; ComponentLink1URL: https://www.littelfuse.com/~/media/electronics/datasheets/tvs_diodes/littelfuse_tvs_diode_smaj_datasheet.pdf.pdf; ComponentLink2Description: DigiKey Link; ComponentLink2URL: http://digikey.com/product-detail/en/littelfuse-inc/SMAJ30A/SMAJ30ALFCT-ND/762506; LastUpdated: 9/2/2020 1:20:14 AM; Lifecycle Status: Active; Minimum Order: 1; Mounting Type: Surface Mount; Operating Temperature: -65°C ~ 150°C (TJ); Package / Case: DO-214AC, SMA; Packaging: TapeAndReel; PartId: 5713; Part Status: Active; Price: 0.07; Series: SMAJ; Supplier 1: DigiKey; Supplier Part Number 1: SMAJ30ALFCT-ND; Supplier Device Package: DO-214AC (SMA); Voltage - Clamping (Max) @ Ipp: 48.4V; Voltage - Reverse Standoff (Typ): 30V
footprint DO214AC SMA
pins: 1, 2

## SMAJ30A-13-F
designator D?
TVS DIODE 30V 48.4V SMA; Manufacturer: Diodes Incorporated; Current - Peak Pulse (10/1000µs): 8.3A; Power Line Protection: No; Power - Peak Pulse: 400W; Type: Zener; Unidirectional Channels: 1; Voltage - Breakdown (Min): 33.3V; Part Number: SMAJ30A-13-F; Applications: General Purpose; ComponentLink1Description: Datasheet; ComponentLink1URL: https://www.diodes.com/assets/Datasheets/ds19005.pdf; ComponentLink2Description: DigiKey Link; ComponentLink2URL: http://digikey.com/product-detail/en/diodes-incorporated/SMAJ30A-13-F/SMAJ30A-FDICT-ND/765464; LastUpdated: 9/2/2020 1:20:13 AM; Lifecycle Status: Active; Minimum Order: 1; Mounting Type: Surface Mount; Operating Temperature: -55°C ~ 150°C (TJ); Package / Case: DO-214AC, SMA; Packaging: TapeAndReel; PartId: 5645; Part Status: Active; Price: 0.08; Series: -; Supplier 1: DigiKey; Supplier Part Number 1: SMAJ30A-FDICT-ND; Supplier Device Package: SMA; Voltage - Clamping (Max) @ Ipp: 48.4V; Voltage - Reverse Standoff (Typ): 30V
footprint DO214AC SMA
pins: 1, 2

## SMAJ30A-E3/5A
designator D?
TVS DIODE 30V 48.4V DO214AC; Manufacturer: Vishay Semiconductor Diodes Division; Current - Peak Pulse (10/1000µs): 8.3A; Power Line Protection: No; Power - Peak Pulse: 400W; Type: Zener; Unidirectional Channels: 1; Voltage - Breakdown (Min): 33.3V; Part Number: SMAJ30A-E3/5A; Applications: General Purpose; ComponentLink1Description: Datasheet; ComponentLink1URL: http://www.vishay.com/docs/88390/smaj50a.pdf; ComponentLink2Description: DigiKey Link; ComponentLink2URL: http://digikey.com/product-detail/en/vishay-semiconductor-diodes-division/SMAJ30A-E3-5A/SMAJ30A-E3-5AGICT-ND/4764809; LastUpdated: 9/2/2020 1:20:15 AM; Lifecycle Status: Active; Minimum Order: 1; Mounting Type: Surface Mount; Operating Temperature: -55°C ~ 150°C (TJ); Package / Case: DO-214AC, SMA; Packaging: TapeAndReel; PartId: 5831; Part Status: Active; Price: 0.09; Series: TransZorb®; Supplier 1: DigiKey; Supplier Part Number 1: SMAJ30A-E3/5AGICT-ND; Supplier Device Package: DO-214AC (SMA); Voltage - Clamping (Max) @ Ipp: 48.4V; Voltage - Reverse Standoff (Typ): 30V
footprint DO214AC SMA
pins: 1, 2

## SMAJ30A-E3/61
designator D?
TVS DIODE 30V 48.4V DO214AC; Manufacturer: Vishay Semiconductor Diodes Division; Current - Peak Pulse (10/1000µs): 8.3A; Power Line Protection: No; Power - Peak Pulse: 400W; Type: Zener; Unidirectional Channels: 1; Voltage - Breakdown (Min): 33.3V; Part Number: SMAJ30A-E3/61; Applications: General Purpose; ComponentLink1Description: Datasheet; ComponentLink1URL: http://www.vishay.com/docs/88390/smaj50a.pdf; ComponentLink2Description: DigiKey Link; ComponentLink2URL: http://digikey.com/product-detail/en/vishay-semiconductor-diodes-division/SMAJ30A-E3-61/SMAJ30A-E3-61GICT-ND/2356600; LastUpdated: 9/2/2020 1:20:14 AM; Lifecycle Status: Active; Minimum Order: 1; Mounting Type: Surface Mount; Operating Temperature: -55°C ~ 150°C (TJ); Package / Case: DO-214AC, SMA; Packaging: TapeAndReel; PartId: 5748; Part Status: Active; Price: 0.08; Series: TransZorb®; Supplier 1: DigiKey; Supplier Part Number 1: SMAJ30A-E3/61GICT-ND; Supplier Device Package: DO-214AC (SMA); Voltage - Clamping (Max) @ Ipp: 48.4V; Voltage - Reverse Standoff (Typ): 30V
footprint DO214AC SMA
pins: 1, 2

## SMAJ30A-TP
designator D?
TVS DIODE 30V 48.4V DO214AC; Manufacturer: Micro Commercial Co; Current - Peak Pulse (10/1000µs): 8.3A; Power Line Protection: No; Power - Peak Pulse: 400W; Type: Zener; Unidirectional Channels: 1; Voltage - Breakdown (Min): 33.3V; Part Number: SMAJ30A-TP; Applications: General Purpose; ComponentLink1Description: Datasheet; ComponentLink1URL: https://www.mccsemi.com/pdf/Products/SMAJ5.0~SMAJ440CA(SMA).pdf; ComponentLink2Description: DigiKey Link; ComponentLink2URL: http://digikey.com/product-detail/en/micro-commercial-co/SMAJ30A-TP/SMAJ30A-TPMSCT-ND/1200592; LastUpdated: 9/2/2020 1:20:18 AM; Lifecycle Status: Active; Minimum Order: 1; Mounting Type: Surface Mount; Operating Temperature: -55°C ~ 175°C (TA); Package / Case: DO-214AC, SMA; Packaging: TapeAndReel; PartId: 6201; Part Status: Active; Price: 0.10; Series: -; Supplier 1: DigiKey; Supplier Part Number 1: SMAJ30A-TPMSCT-ND; Supplier Device Package: DO-214AC (SMA); Voltage - Clamping (Max) @ Ipp: 48.4V; Voltage - Reverse Standoff (Typ): 30V
footprint DO214AC SMA
pins: 1, 2

## SMAJ30A-TR
designator D?
TVS DIODE 30V 64.3V SMA; Manufacturer: STMicroelectronics; Current - Peak Pulse (10/1000µs): 36A (8/20µs); Power Line Protection: No; Power - Peak Pulse: 400W; Type: Zener; Unidirectional Channels: 1; Voltage - Breakdown (Min): 33.3V; Part Number: SMAJ30A-TR; Applications: General Purpose; ComponentLink1Description: Datasheet; ComponentLink1URL: http://www.st.com/content/ccc/resource/technical/document/datasheet/ff/c0/80/cc/19/4c/45/af/CD00001333.pdf/files/CD00001333.pdf/_jcr_content/translations/en.CD00001333.pdf; ComponentLink2Description: DigiKey Link; ComponentLink2URL: http://digikey.com/product-detail/en/stmicroelectronics/SMAJ30A-TR/497-12778-1-ND/2873847; LastUpdated: 9/2/2020 1:20:18 AM; Lifecycle Status: Active; Minimum Order: 1; Mounting Type: Surface Mount; Operating Temperature: -55°C ~ 150°C (TJ); Package / Case: DO-214AC, SMA; Packaging: TapeAndReel; PartId: 6129; Part Status: Active; Price: 0.10; Series: SMAJ, TRANSIL™; Supplier 1: DigiKey; Supplier Part Number 1: 497-12778-1-ND; Supplier Device Package: SMA (DO-214AC); Voltage - Clamping (Max) @ Ipp: 64.3V; Voltage - Reverse Standoff (Typ): 30V
footprint DO214AC SMA
pins: 1, 2

## SMAJ30AHR3G
designator D?
TVS DIODE 30V 48.4V DO214AC; Manufacturer: Taiwan Semiconductor Corporation; Current - Peak Pulse (10/1000µs): 8.3A; Power Line Protection: No; Power - Peak Pulse: 400W; Type: Zener; Unidirectional Channels: 1; Voltage - Breakdown (Min): 33.3V; Part Number: SMAJ30AHR3G; Applications: Automotive; ComponentLink1Description: Datasheet; ComponentLink1URL: https://www.taiwansemi.com/products/datasheet/SMAJ%20SERIES_S1901.pdf; ComponentLink2Description: DigiKey Link; ComponentLink2URL: http://digikey.com/product-detail/en/taiwan-semiconductor-corporation/SMAJ30AHR3G/SMAJ30AHR3GCT-ND/10287939; LastUpdated: 9/2/2020 1:20:17 AM; Lifecycle Status: Active; Minimum Order: 1; Mounting Type: Surface Mount; Operating Temperature: -55°C ~ 150°C (TJ); Package / Case: DO-214AC, SMA; Packaging: TapeAndReel; PartId: 6059; Part Status: Active; Price: 0.11; Series: Automotive, AEC-Q101, SMAJ; Supplier 1: DigiKey; Supplier Part Number 1: SMAJ30AHR3GCT-ND; Supplier Device Package: DO-214AC (SMA); Voltage - Clamping (Max) @ Ipp: 48.4V; Voltage - Reverse Standoff (Typ): 30V
footprint DO214AC SMA
pins: 1, 2

## SMAJ30AQ-13-F
designator D?
TRANSIENT VOLTAGE SUPPRESSOR,SMA; Manufacturer: Diodes Incorporated; Current - Peak Pulse (10/1000µs): 8.3A; Power Line Protection: No; Power - Peak Pulse: 400W; Type: Zener; Unidirectional Channels: 1; Voltage - Breakdown (Min): 33.3V; Voltage - Clamping (Max) @ Ipp: 48.4V; Voltage - Reverse Standoff (Typ): 30V; Part Number: SMAJ30AQ-13-F; Applications: Automotive; ComponentLink1Description: Datasheet; ComponentLink1URL: https://www.diodes.com/assets/Datasheets/ds40739.pdf; ComponentLink2Description: DigiKey Link; ComponentLink2URL: http://digikey.com/product-detail/en/diodes-incorporated/SMAJ30AQ-13-F/SMAJ30AQ-13-FDICT-ND/9738965; LastUpdated: 9/2/2020 1:20:13 AM; Lifecycle Status: Active; Minimum Order: 1; Mounting Type: Surface Mount; Operating Temperature: -55°C ~ 150°C (TJ); Package / Case: DO-214AC, SMA; Packaging: TapeAndReel; PartId: 5651; Part Status: Active; Price: 0.09; Series: Automotive, AEC-Q101; Supplier 1: DigiKey; Supplier Part Number 1: SMAJ30AQ-13-FDICT-ND; Supplier Device Package: SMA
footprint DO214AC SMA
pins: 1, 2

## SMAJ30CA
designator D?
TVS DIODE 30V 48.4V DO214AC; Manufacturer: Littelfuse Inc.; Bidirectional Channels: 1; Current - Peak Pulse (10/1000µs): 8.3A; Power Line Protection: No; Power - Peak Pulse: 400W; Type: Zener; Voltage - Breakdown (Min): 33.3V; Part Number: SMAJ30CA; Applications: General Purpose; ComponentLink1Description: Datasheet; ComponentLink1URL: https://www.littelfuse.com/~/media/electronics/datasheets/tvs_diodes/littelfuse_tvs_diode_smaj_datasheet.pdf.pdf; ComponentLink2Description: DigiKey Link; ComponentLink2URL: http://digikey.com/product-detail/en/littelfuse-inc/SMAJ30CA/SMAJ30CALFCT-ND/762507; LastUpdated: 9/2/2020 1:27:51 AM; Lifecycle Status: Active; Minimum Order: 1; Mounting Type: Surface Mount; Operating Temperature: -65°C ~ 150°C (TJ); Package / Case: DO-214AC, SMA; Packaging: TapeAndReel; PartId: 7378; Part Status: Active; Price: 0.08; Series: SMAJ; Supplier 1: DigiKey; Supplier Part Number 1: SMAJ30CALFCT-ND; Supplier Device Package: DO-214AC (SMA); Voltage - Clamping (Max) @ Ipp: 48.4V; Voltage - Reverse Standoff (Typ): 30V
footprint DO214AC SMA
pins: 1, 2

## SMAJ30CA R3G
designator D?
TVS DIODE 30V 48.4V DO214AC; Manufacturer: Taiwan Semiconductor Corporation; Bidirectional Channels: 1; Current - Peak Pulse (10/1000µs): 8.3A; Power Line Protection: No; Power - Peak Pulse: 400W; Type: Zener; Voltage - Breakdown (Min): 33.3V; Part Number: SMAJ30CA R3G; Applications: General Purpose; ComponentLink1Description: Datasheet; ComponentLink1URL: https://www.taiwansemi.com/products/datasheet/SMAJ%20SERIES_S1901.pdf; ComponentLink2Description: DigiKey Link; ComponentLink2URL: http://digikey.com/product-detail/en/taiwan-semiconductor-corporation/SMAJ30CA-R3G/SMAJ30CAR3GCT-ND/7358814; LastUpdated: 9/2/2020 1:27:53 AM; Lifecycle Status: Active; Minimum Order: 1; Mounting Type: Surface Mount; Operating Temperature: -55°C ~ 150°C (TJ); Package / Case: DO-214AC, SMA; Packaging: TapeAndReel; PartId: 7575; Part Status: Active; Price: 0.11; Series: SMAJ; Supplier 1: DigiKey; Supplier Part Number 1: SMAJ30CAR3GCT-ND; Supplier Device Package: DO-214AC (SMA); Voltage - Clamping (Max) @ Ipp: 48.4V; Voltage - Reverse Standoff (Typ): 30V
footprint DO214AC SMA
pins: 1, 2

## SMAJ30CA-13-F
designator D?
TVS DIODE 30V 48.4V SMA; Manufacturer: Diodes Incorporated; Bidirectional Channels: 1; Current - Peak Pulse (10/1000µs): 8.3A; Power Line Protection: No; Power - Peak Pulse: 400W; Type: Zener; Voltage - Breakdown (Min): 33.3V; Part Number: SMAJ30CA-13-F; Applications: General Purpose; ComponentLink1Description: Datasheet; ComponentLink1URL: https://www.diodes.com/assets/Datasheets/ds19005.pdf; ComponentLink2Description: DigiKey Link; ComponentLink2URL: http://digikey.com/product-detail/en/diodes-incorporated/SMAJ30CA-13-F/SMAJ30CA-FDICT-ND/768838; LastUpdated: 9/2/2020 1:27:52 AM; Lifecycle Status: Active; Minimum Order: 1; Mounting Type: Surface Mount; Operating Temperature: -55°C ~ 150°C (TJ); Package / Case: DO-214AC, SMA; Packaging: TapeAndReel; PartId: 7429; Part Status: Active; Price: 0.09; Series: -; Supplier 1: DigiKey; Supplier Part Number 1: SMAJ30CA-FDICT-ND; Supplier Device Package: SMA; Voltage - Clamping (Max) @ Ipp: 48.4V; Voltage - Reverse Standoff (Typ): 30V
footprint DO214AC SMA
pins: 1, 2

## SMAJ30CA-E3/5A
designator D?
TVS DIODE 30V 48.4V DO214AC; Manufacturer: Vishay Semiconductor Diodes Division; Bidirectional Channels: 1; Current - Peak Pulse (10/1000µs): 8.3A; Power Line Protection: No; Power - Peak Pulse: 400W; Type: Zener; Voltage - Breakdown (Min): 33.3V; Part Number: SMAJ30CA-E3/5A; Applications: General Purpose; ComponentLink1Description: Datasheet; ComponentLink1URL: http://www.vishay.com/docs/88390/smaj50a.pdf; ComponentLink2Description: DigiKey Link; ComponentLink2URL: http://digikey.com/product-detail/en/vishay-semiconductor-diodes-division/SMAJ30CA-E3-5A/SMAJ30CA-E3-5AGICT-ND/9600997; LastUpdated: 9/2/2020 1:27:55 AM; Lifecycle Status: Active; Minimum Order: 1; Mounting Type: Surface Mount; Operating Temperature: -55°C ~ 150°C (TJ); Package / Case: DO-214AC, SMA; Packaging: TapeAndReel; PartId: 7852; Part Status: Active; Price: 0.09; Series: TransZorb®; Supplier 1: DigiKey; Supplier Part Number 1: SMAJ30CA-E3/5AGICT-ND; Supplier Device Package: DO-214AC (SMA); Voltage - Clamping (Max) @ Ipp: 48.4V; Voltage - Reverse Standoff (Typ): 30V
footprint DO214AC SMA
pins: 1, 2